# Altium schematic symbol library SCH - OPAMP - LM321.SCHLIB: 1 symbol
Pins are listed as number, name and electrical type; pins without a type are passive.

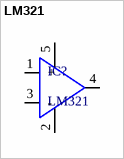
[diagram p0: symbol LM321]

## LM321
designator IC?
Dual Op Amp
pins: 1 +, 2, 3 -, 4, 5